# Altium footprint library PCB - RELAY - OMRON G2RL-24 DC12.PCBLIB: 1 footprints
Each footprint in its own frame and in the unit in brackets; x right, y up, seen from the top. Pads: shape width x height; smd on the part's side, far side on the other; paste and mask are expansions set on the pad; w line width, h text height; cw(c..) or ccw(c..) is an arc to the next point about the centre after c.
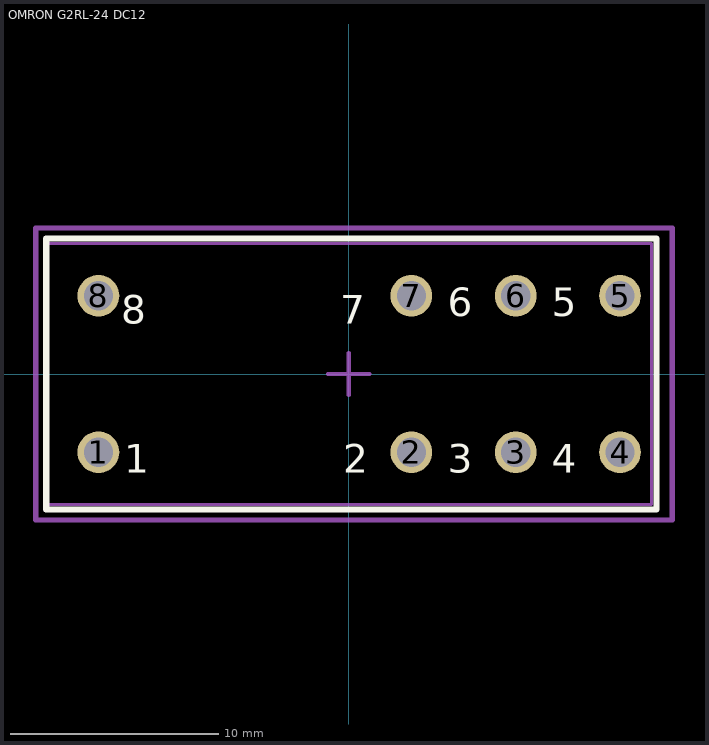
[diagram p0: the footprint, top view; thin cyan lines are the x and y axes]

## OMRON G2RL-24 DC12 [mm]
height 9.52
pads (8):
  round 2 hole 1.4: 1(-12,-3.75) 8(-12,3.75)
  round 2 hole 1.4 mask+0.1: 2(3,-3.75) 3(8,-3.75) 4(13,-3.75) 5(13,3.75) 6(8,3.75) 7(3,3.75)
Top Overlay:
  lines w0.3: -14.5,-6.5 -14.5,6.5 14.75,6.5 14.75,-6.5 -14.5,-6.5
  text "1" at -10.762,-4.74 h1.37
  text "2" at -0.262,-4.74 h1.37
  text "3" at 4.738,-4.74 h1.37
  text "4" at 9.738,-4.74 h1.37
  text "5" at 9.738,2.76 h1.37
  text "6" at 4.738,2.76 h1.37
  text "7" at -0.4,2.4 h1.37
  text "8" at -10.9,2.4 h1.37
Mechanical 1:
  lines w0.15: -14.5,-6.25 14.5,-6.25 14.5,6.25 -14.5,6.25 -14.5,-6.25
Mechanical 15:
  lines w0.2: -1,0 1,0 ; 0,-1 0,1
  lines w0.25: -15,-7 15.5,-7 15.5,7 -15,7 -15,-7
3D body "G2RL_2.step": height 15.7, standoff -3.5, extent -14.4,-6.35 14.6,6.35